# Altium footprint library 103669-1.PcbLib: 1 footprints
Each footprint in its own frame and in the unit in brackets; x right, y up, seen from the top. Pads: shape width x height; smd on the part's side, far side on the other; paste and mask are expansions set on the pad; w line width, h text height; cw(c..) or ccw(c..) is an arc to the next point about the centre after c.
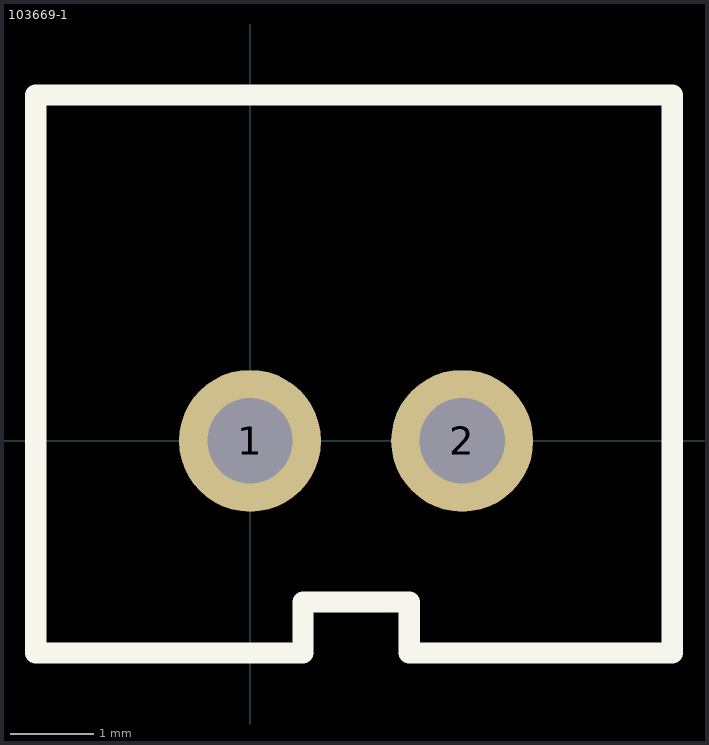
[diagram p0: the footprint, top view; thin cyan lines are the x and y axes]

## 103669-1 [mm] "2pos .1\" AMPMODU shrouded header"
pads (2):
  round 1.7 hole 1.02: 1(0,0) 2(2.54,0)
Top Overlay:
  lines w0.254: -0.838,-2.54 0.635,-2.54 0.635,-1.93 1.905,-1.93 1.905,-2.54 3.251,-2.54 ; -0.66,-2.54 -2.565,-2.54 -2.565,2.565 -2.565,4.14 5.055,4.14 5.055,2.743 5.055,-2.54 3.15,-2.54
3D body: height 13.59, standoff -3.3, extent -2.565,-2.54 5.055,4.14